# EAGLE library part CD74HC123 (library PP_DigitalIC)
Manufacturer Part #: CD74HC123 Manufacturer: Texas Instruments Description: Monostable Multivibrator Dual Retrig Mono
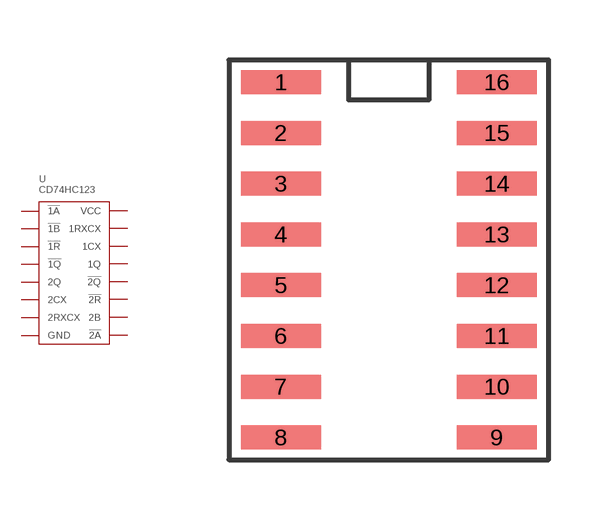
[diagram p18: symbol with the pads of CD74HC123_SOIC-16; footprint CD74HC123_SOIC-16]

Designator prefix U

## CD74HC123M96  [CD74HC123_SOIC-16]
1  !1A
2  !1B
3  !1R
4  !1Q
5  2Q
6  2CX
7  2RXCX
8  GND
9  !2A
10  2B
11  !2R
12  !2Q
13  1Q
14  1CX
15  1RXCX
16  VCC

## Footprint CD74HC123_SOIC-16 (pad centres in mm)
smd 2 x 0.6: 1 -2.7,4.445; 2 -2.7,3.175; 3 -2.7,1.905; 4 -2.7,0.635; 5 -2.7,-0.635; 6 -2.7,-1.905; 7 -2.7,-3.175; 8 -2.7,-4.445; 9 2.7,-4.445; 10 2.7,-3.175; 11 2.7,-1.905; 12 2.7,-0.635; 13 2.7,0.635; 14 2.7,1.905; 15 2.7,3.175; 16 2.7,4.445